# Altium footprint library mylib.PcbLib: 214 footprints (part 9 of 14)
Each footprint in its own frame and in the unit in brackets; x right, y up, seen from the top. Pads: shape width x height; smd on the part's side, far side on the other; paste and mask are expansions set on the pad; w line width, h text height; cw(c..) or ccw(c..) is an arc to the next point about the centre after c.
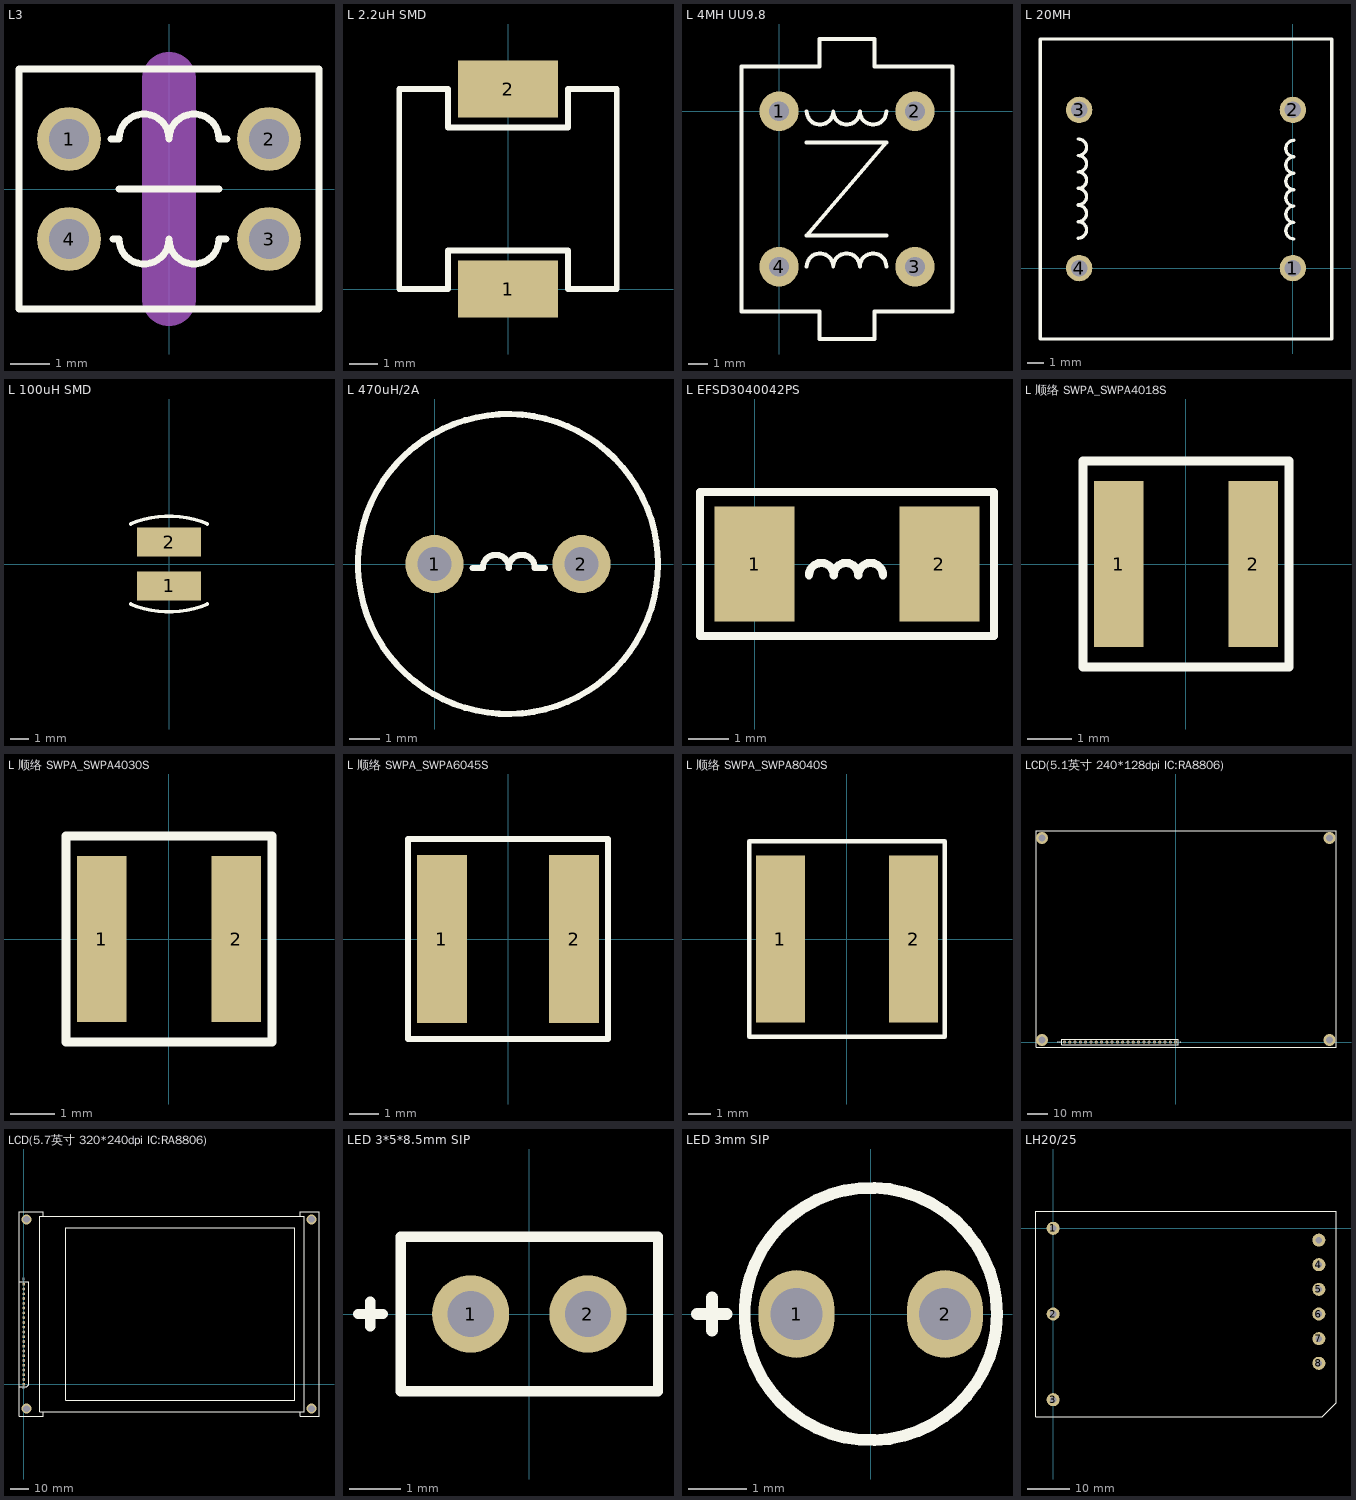
[diagram p8: the footprints below, top view; thin cyan lines are the x and y axes]

## L3 [mil]
pads (4):
  round 64 hole 40: 1(-100,50) 2(100,50) 3(100,-50) 4(-100,-50)
Top Overlay:
  lines w7: -58,50 -50,50 cw(c-25,50) 0,50 cw(c25,50) 50,50 58,50 ; -56,-50 -50,-50 ccw(c-25,-50) 0,-50 ccw(c25,-50) 50,-50 57,-50 ; -50,0 50,0 ; -150,-120 150,-120 150,120 -150,120 -150,-120
Mechanical 1:
  lines w54: 0,-110 0,110

## L 2.2uH SMD [mil]
pads (2):
  rect 138x78 smd: 1(0,0) 2(0,276)
Top Overlay:
  lines w8: -150,0 -150,276 -83,276 -83,223 83,223 83,276 150,276 150,-0.02 83,-0.02 83,53 -83,53 -83,0 -150,0

## L 4MH UU9.8 [mil]
pads (4):
  round 80 hole 40: 1(0,0) 2(275.59,0) 3(275.59,-314.96) 4(0,-314.96)
Top Overlay:
  lines w8: 56.07,-314.96 cw(c83,-314.96) 109.93,-314.96 cw(c136.85,-314.96) 163.78,-314.96 cw(c190.7,-314.96) 217.63,-314.96 ; 56.07,-62.99 217.63,-62.99 56.07,-251.97 217.63,-251.97 ; 56.07,0 ccw(c83,0) 109.93,0 ccw(c136.85,0) 163.78,0 ccw(c190.7,0) 217.63,0 ; -76.21,-405.48 -76.21,90.52 81.79,90.52 81.79,146.52 193.79,146.52 193.79,90.52 351.79,90.52 351.79,-405.48 193.79,-405.48 193.79,-461.48 81.79,-461.48 81.79,-405.48 -76.21,-405.48

## L 20MH [mil]
pads (4):
  round 64 hole 40: 1(0,0) 2(0,385) 3(-520,385) 4(-520,0)
Top Overlay:
  lines w8: -614.5,-172.5 -614.5,557.5 94,557.5 ; -614,-172.5 94.5,-172.5 94.5,557.5 ; -522,73 ccw(c-522,93) -522,113 ccw(c-522,133) -522,153 ; -522,154 ccw(c-522,174) -522,194 ccw(c-522,214) -522,234 ccw(c-522,254) -522,274 ccw(c-522,294) -522,314 ; 3,71 cw(c3,91) 3,111 cw(c3,131) 3,151 cw(c3,171) 3,191 cw(c3,211) 3,231 cw(c3,251) 3,271 cw(c3,291) 3,311

## L 100uH SMD [mm]
pads (2):
  rect 3.5x1.6 smd: 1(0,-1.2) 2(0,1.2)
Top Overlay:
  lines w0.203: -2.105,-2.197 ccw(c0,2.8) 2.105,-2.197 ; -2.105,2.197 cw(c0,-2.8) 2.105,2.197

## L 470uH/2A [mil]
pads (2):
  round 76 hole 44: 1(0,0) 2(192,0)
Top Overlay:
  circle w8: c96,0 r196
  lines w8: 50,-5 63,-5 cw(c80,-5) 97,-5 cw(c114,-5) 131,-5 144,-5
3D body: height 570.08, standoff 0, extent -100.4,-196.4 292.4,196.4

## L EFSD3040042PS [mil]
pads (2):
  rect 78x112 smd: 1(0,0) 2(180,0)
Top Overlay:
  lines w8: 53,-11 cw(c65,-11) 77,-11 cw(c89,-11) 101,-11 cw(c113,-11) 125,-11 ; -53,-70 -53,70 233,70 233,-70 -53,-70

## L 顺络 SWPA_SWPA4018S [mm]
pads (2):
  rect 1.1x3.7 smd: 1(-1.5,0) 2(1.5,0)
Top Overlay:
  lines w0.2: -2.3,-2.3 -2.3,2.3 2.3,2.3 2.3,-2.3 -2.3,-2.3

## L 顺络 SWPA_SWPA4030S [mm]
pads (2):
  rect 1.1x3.7 smd: 1(-1.5,0) 2(1.5,0)
Top Overlay:
  lines w0.2: -2.3,-2.3 2.3,-2.3 2.3,2.3 -2.3,2.3 -2.3,-2.3

## L 顺络 SWPA_SWPA6045S [mm]
pads (2):
  rect 1.7x5.7 smd: 1(-2.25,0) 2(2.25,0)
Top Overlay:
  lines w0.2: -3.4,-3.4 -3.4,3.4 3.4,3.4 3.4,-3.4 -3.4,-3.4

## L 顺络 SWPA_SWPA8040S [mm]
pads (2):
  rect 2.2x7.5 smd: 1(-3,0) 2(3,0)
Top Overlay:
  lines w0.2: -4.4,-4.4 -4.4,4.4 4.4,4.4 4.4,-4.4 -4.4,-4.4

## LCD(5.1英寸 240*128dpi IC:RA8806) [mil]
pads (22):
  rect 59x59 hole 35: 1(0,0)
  round 59 hole 35: 2(-100,0) 3(-200,0) 4(-300,0) 5(-400,0) 6(-500,0) 7(-600,0) 8(-700,0) 9(-800,0) 10(-900,0) 11(-1000,0) 12(-1100,0) 13(-1200,0) 14(-1300,0) 15(-1400,0) 16(-1500,0) 17(-1600,0) 18(-1700,0) 19(-1800,0) 20(-1900,0) 21(-2000,0) 22(-2100,0)
via 2910.24,3858.03 diameter 229.53 hole 133.86
via 2910.24,39.13 diameter 229.53 hole 133.86
via -2522.99,39.13 diameter 229.53 hole 133.86
via -2522.83,3858.03 diameter 229.53 hole 133.86
Top Overlay:
  lines w8: -2637.99,-99.65 -2637.99,3994 3030,3994 3030,-99.65 -2637.99,-99.65 ; -2150,-50 50,-50 50,50 -2150,50 -2150,-50
  text "22" at -2235,-21 h40
  text "1" at 79,-21 h40

## LCD(5.7英寸 320*240dpi IC:RA8806) [mil]
pads (22):
  rect 59x59 hole 35: 1(0,0)
  round 59 hole 35: 2(0,100) 3(0,200) 4(0,300) 5(0,400) 6(0,500) 7(0,600) 8(0,700) 9(0,800) 10(0,900) 11(0,1000) 12(0,1100) 13(0,1200) 14(0,1300) 15(0,1400) 16(0,1500) 17(0,1600) 18(0,1700) 19(0,1800) 20(0,1900) 21(0,2000) 22(0,2100)
via 57.48,3464.57 diameter 208 hole 137.8
via 57.48,-511.81 diameter 208 hole 137.8
via 6041.73,-511.81 diameter 208 hole 137.8
via 6041.73,3464.57 diameter 208 hole 137.8
Top Overlay:
  lines w8: -100,-50 61,-50 100,-11 100,2150 -100,2150 ; 411.81,-580.71 411.81,-669.29 -100,-669.29 -100,3622.05 411.81,3622.05 411.81,3533.46 ; 5805.51,-580.71 5805.51,-669.29 6199.21,-669.29 6199.21,3622.05 5805.51,3622.05 5805.51,3533.46 ; 333.07,-580.71 333.07,3533.46 5884.25,3533.46 5884.25,-580.71 333.07,-580.71 ; 884.25,-334.65 5687.4,-334.65 5687.4,3287.4 884.25,3287.4 884.25,-334.65
  text "1" at -20,-72 h40
  text "22" at -20,2239 h40

## LED 3*5*8.5mm SIP [mm]
pads (2):
  round 1.5 hole 0.9: 1(-1.14,0) 2(1.14,0)
Top Overlay:
  lines w0.203: -3.327,0 -2.845,0 ; -3.086,-0.241 -3.086,0.241 ; -2.5,-1.5 -2.5,1.5 2.5,1.5 2.5,-1.5 -2.5,-1.5

## LED 3mm SIP [mil]
pads (2):
  oval 51x59 hole 35: 1(-50,0) 2(50,0)
Top Overlay:
  circle w8: c0,0 r85
  lines w8: -117,0 -97,0 ; -107,-11 -107,11

## LH20/25 [mil]
pads (9):
  round 120 hole 60: 1(0,0) 2(0,-787.4) 3(0,-1574.8) 4(2440.94,-334.65) 5(2440.94,-561.02) 6(2440.94,-787.4) 7(2440.94,-1013.78) 8(2440.94,-1240.16) Trim(2440.94,-108.27)
Top Overlay:
  lines w8: -157.48,-1732.28 2470.59,-1732.28 2598.43,-1604.45 2598.43,157.48 -157.48,157.48 -157.48,-1732.28